# EAGLE library part DM080104 (library general_lib)
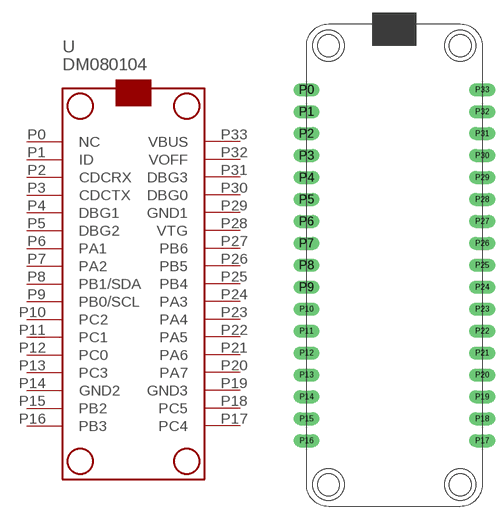
[diagram p0: symbol with the pads of DM080104; footprint DM080104]

Designator prefix -

## DM080104  [DM080104]
P0  NC  nc
P1  ID  out
P2  CDCRX
P3  CDCTX
P4  DBG1  nc
P5  DBG2  nc
P6  PA1
P7  PA2
P8  PB1/SDA
P9  PB0/SCL
P10  PC2
P11  PC1
P12  PC0
P13  PC3
P14  GND2
P15  PB2
P16  PB3
P17  PC4
P18  PC5
P19  GND3
P20  PA7
P21  PA6
P22  PA5
P23  PA4
P24  PA3
P25  PB4
P26  PB5
P27  PB6
P28  VTG  sup
P29  GND1  sup
P30  DBG0  nc
P31  DBG3  nc
P32  VOFF  sup
P33  VBUS  out

## Footprint DM080104 (pad centres in mm)
drill 1.016 long: P0 0,-7.62; P1 0,-10.16; P2 0,-12.7; P3 0,-15.24; P4 0,-17.78; P5 0,-20.32; P6 0,-22.86; P7 0,-25.4; P8 0,-27.94; P9 0,-30.48; P10 0,-33.02; P11 0,-35.56; P12 0,-38.1; P13 0,-40.64; P14 0,-43.18; P15 0,-45.72; P16 0,-48.26; P17 20.32,-48.26; P18 20.32,-45.72; P19 20.32,-43.18; P20 20.32,-40.64; P21 20.32,-38.1; P22 20.32,-35.56; P23 20.32,-33.02; P24 20.32,-30.48; P25 20.32,-27.94; P26 20.32,-25.4; P27 20.32,-22.86; P28 20.32,-20.32; P29 20.32,-17.78; P30 20.32,-15.24; P31 20.32,-12.7; P32 20.32,-10.16; P33 20.32,-7.62
hole 2.54 at 2.54,-2.54
hole 2.54 at 17.78,-2.54
hole 2.54 at 17.78,-53.34
hole 2.54 at 2.54,-53.34